# Altium integrated library TI_Logic_Flip-Flop,Latch,Register.IntLib: 2598 symbols (part 68 of 122)
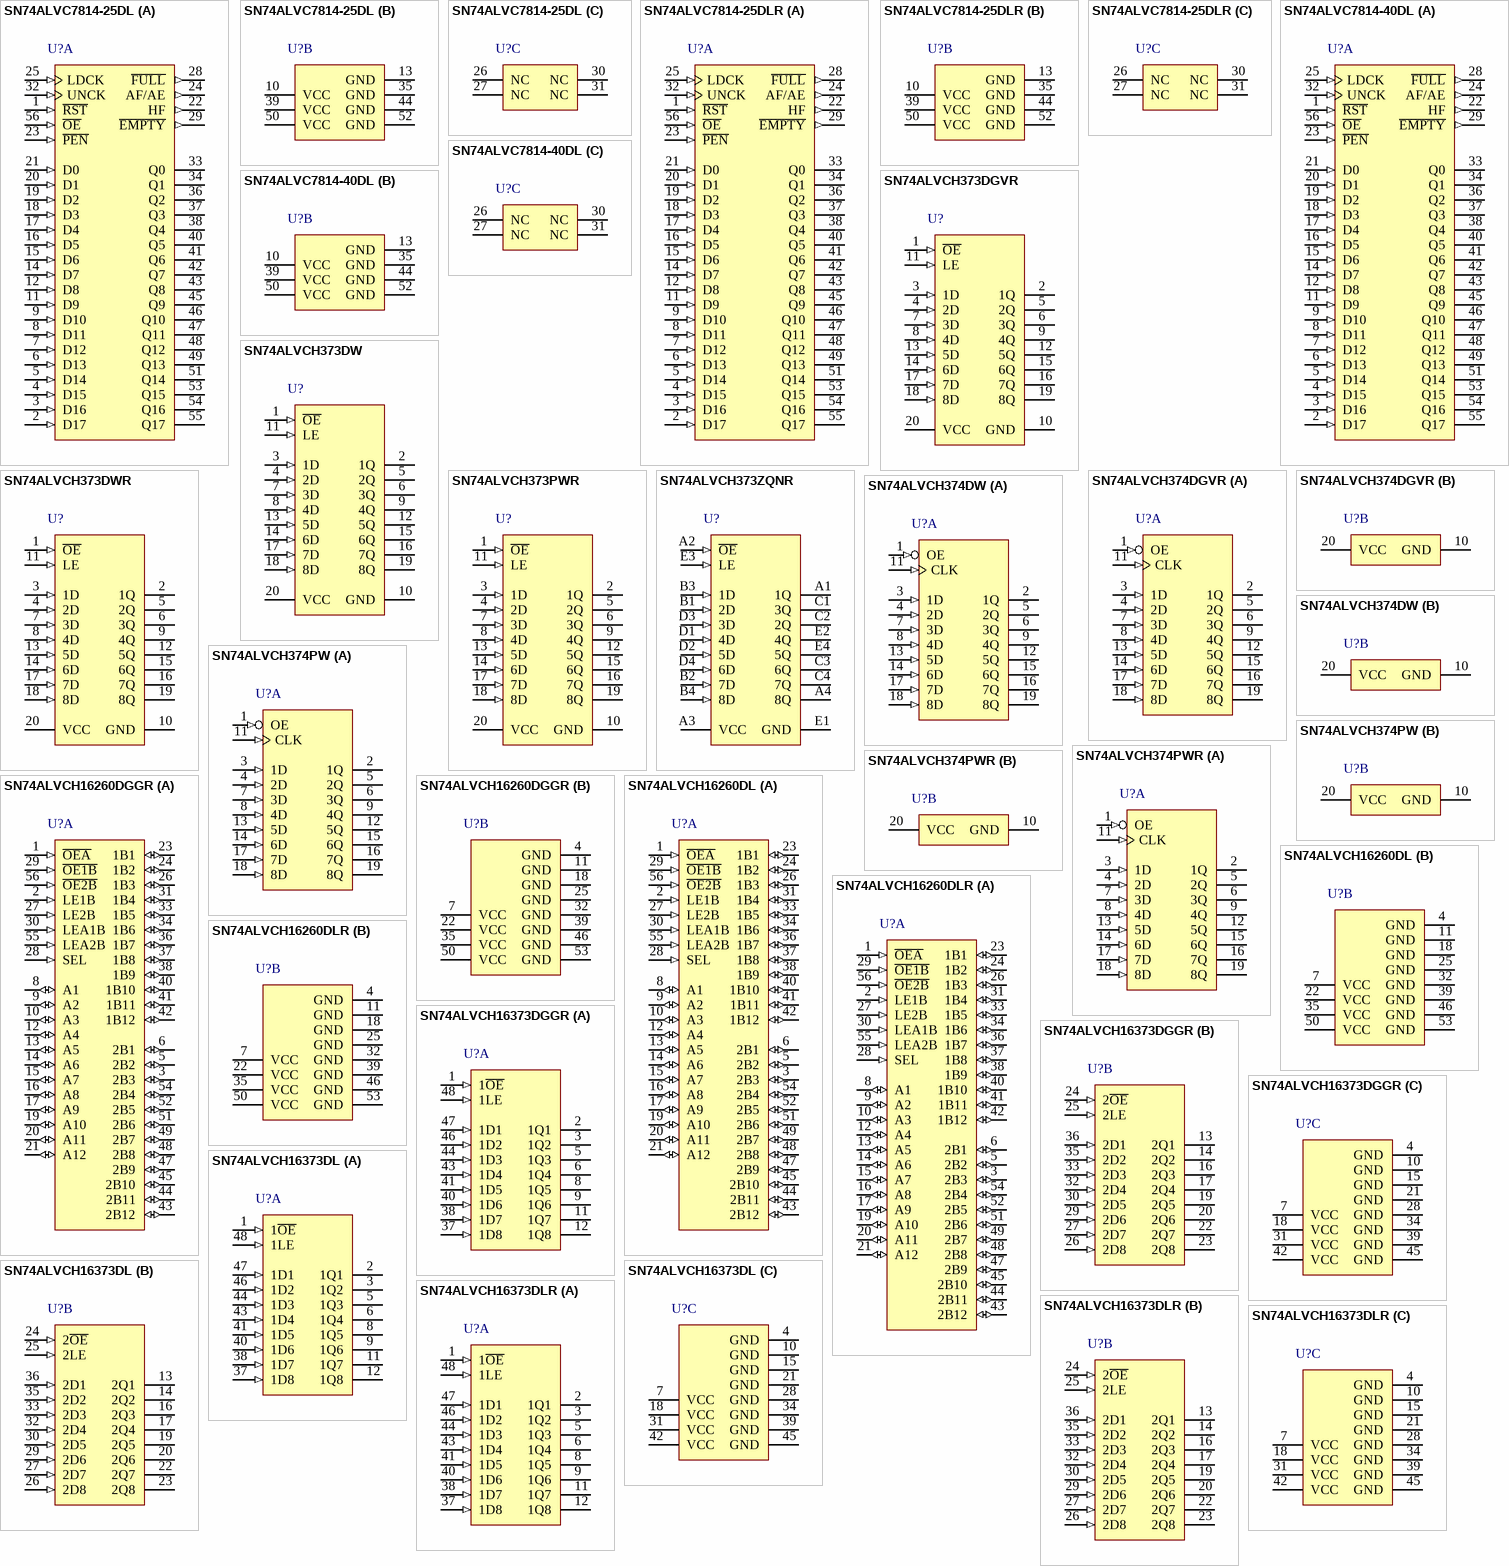
[diagram p206: symbols SN74ALVC7814-25DL to SN74ALVCH16373DLR]

## SN74ALVCH16373DL
designator U?
16-Bit Transparent D-Type Latch With 3-State Outputs, DL0048A, TUBE; Generic Part Number: SN74ALVCH16373; Manufacturer: Texas Instruments; PartNumber: SN74ALVCH16373DL; VCC(Min)(V): 1.65; VCC(Max)(V): 3.6; Output Type: LVTTL; Logic: True; Static Current: 0.04; Bits(#): 16; F @ Nom Voltage(Max)(Mhz): 150; Rating: Catalog; Technology Family: ALVC; Voltage(Nom)(V): 1.8,2.5,2.7,3.3; Schmitt Trigger: No; Output Drive (IOL/IOH)(Max)(mA): 24/-24; Output Logic: Non-inverted; 3-State Output: Yes; tpd @ Nom Voltage(Max)(ns): 4.5,4.3,3.6; DatasheetVersion: SCES020I; PackageReference: DL0048A; Supplier 1: Digi-Key; Supplier Part Number 1: 296-5225-5-ND; Supplier 2: Farnell; Supplier Part Number 2: 1740980; Supplier 3: Mouser; Supplier Part Number 3: 595-SN74ALVCH16373DL; ICC @ Nom Voltage(Max)(mA): 0.04; Input Type: LVTTL; Operating Temperature Range(C): -40 to 85; Code_JEDEC: MO-118; ComponentLink1Description: Manufacturer URL; ComponentLink1URL: http://www.ti.com/; ComponentLink2Description: Datasheet; ComponentLink2URL: http://www.ti.com/lit/ds/symlink/sn74alvch16373.pdf; ComponentLink3Description: Package Specification; ComponentLink3URL: http://www.ti.com/lit/ml/mpds490/mpds490.pdf
footprint DL0048A_N (SOP, 48-Leads, Body 7.6x16mm, Pitch 0.635mm, IPC Medium Density)
footprint DL0048A_M (SOP, 48-Leads, Body 7.6x16mm, Pitch 0.635mm, IPC Low Density)
footprint DL0048A_L (SOP, 48-Leads, Body 7.6x16mm, Pitch 0.635mm, IPC High Density)
part A pins: 1 1~{OE} (in) "Output Enable 1", 2 1Q1 (hiz) "1Q1 Output", 3 1Q2 (hiz) "1Q2 Output", 5 1Q3 (hiz) "1Q3 Output", 6 1Q4 (hiz) "1Q4 Output", 8 1Q5 (hiz) "1Q5 Output", 9 1Q6 (hiz) "1Q6 Output", 11 1Q7 (hiz) "1Q7 Output", 12 1Q8 (hiz) "1Q8 Output", 37 1D8 (in) "1D8 Input", 38 1D7 (in) "1D7 Input", 40 1D6 (in) "1D6 Input", 41 1D5 (in) "1D5 Input", 43 1D4 (in) "1D4 Input", 44 1D3 (in) "1D3 Input", 46 1D2 (in) "1D2 Input", 47 1D1 (in) "1D1 Input", 48 1LE (in) "Latch Enable 1"
part B pins: 13 2Q1 (hiz) "2Q1 Output", 14 2Q2 (hiz) "2Q2 Output", 16 2Q3 (hiz) "2Q3 Output", 17 2Q4 (hiz) "2Q4 Output", 19 2Q5 (hiz) "Output", 20 2Q6 (hiz) "2Q6 Output", 22 2Q7 (hiz) "2Q7 Output", 23 2Q8 (hiz) "2Q8 Output", 24 2~{OE} (in) "Output Enable 2", 25 2LE (in) "2LE Input", 26 2D8 (in) "2D8 Input", 27 2D7 (in) "2D7 Input", 29 2D6 (in) "2D6 Input", 30 2D5 (in) "2D5 Input", 32 2D4 (in) "2D4 Input", 33 2D3 (in) "2D3 Input", 35 2D2 (in) "2D2 Input", 36 2D1 (in) "2D1 Input"
part C pins: 4 GND (power) "Ground Pin", 7 VCC (power) "Power Pin", 10 GND (power) "Ground Pin", 15 GND (power) "Ground Pin", 18 VCC (power) "Power Pin", 21 GND (power) "Ground Pin", 28 GND (power) "Ground Pin", 31 VCC (power) "Power Pin", 34 GND (power) "Ground Pin", 39 GND (power) "Ground Pin", 42 VCC (power) "Power Pin", 45 GND (power) "Ground Pin"

## SN74ALVCH16373DLR
designator U?
16-Bit Transparent D-Type Latch With 3-State Outputs, DL0048A, LARGE T&R; Generic Part Number: SN74ALVCH16373; Manufacturer: Texas Instruments; PartNumber: SN74ALVCH16373DLR; VCC(Min)(V): 1.65; VCC(Max)(V): 3.6; Output Type: LVTTL; Logic: True; Static Current: 0.04; Bits(#): 16; F @ Nom Voltage(Max)(Mhz): 150; Rating: Catalog; Technology Family: ALVC; Voltage(Nom)(V): 1.8,2.5,2.7,3.3; Schmitt Trigger: No; Output Drive (IOL/IOH)(Max)(mA): 24/-24; Output Logic: Non-inverted; 3-State Output: Yes; tpd @ Nom Voltage(Max)(ns): 4.5,4.3,3.6; DatasheetVersion: SCES020I; PackageReference: DL0048A; Supplier 1: Digi-Key; Supplier Part Number 1: 296-14784-2-ND; Supplier 2: Digi-Key; Supplier Part Number 2: 296-14784-1-ND; Supplier 3: Digi-Key; Supplier Part Number 3: 296-14784-6-ND; Supplier 4: Mouser; Supplier Part Number 4: 595-74ALVCH16373DLR; ICC @ Nom Voltage(Max)(mA): 0.04; Input Type: LVTTL; Operating Temperature Range(C): -40 to 85; Code_JEDEC: MO-118; ComponentLink1Description: Manufacturer URL; ComponentLink1URL: http://www.ti.com/; ComponentLink2Description: Datasheet; ComponentLink2URL: http://www.ti.com/lit/ds/symlink/sn74alvch16373.pdf; ComponentLink3Description: Package Specification; ComponentLink3URL: http://www.ti.com/lit/ml/mpds490/mpds490.pdf
footprint DL0048A_N (SOP, 48-Leads, Body 7.6x16mm, Pitch 0.635mm, IPC Medium Density)
footprint DL0048A_M (SOP, 48-Leads, Body 7.6x16mm, Pitch 0.635mm, IPC Low Density)
footprint DL0048A_L (SOP, 48-Leads, Body 7.6x16mm, Pitch 0.635mm, IPC High Density)
part A pins: 1 1~{OE} (in) "Output Enable 1", 2 1Q1 (hiz) "1Q1 Output", 3 1Q2 (hiz) "1Q2 Output", 5 1Q3 (hiz) "1Q3 Output", 6 1Q4 (hiz) "1Q4 Output", 8 1Q5 (hiz) "1Q5 Output", 9 1Q6 (hiz) "1Q6 Output", 11 1Q7 (hiz) "1Q7 Output", 12 1Q8 (hiz) "1Q8 Output", 37 1D8 (in) "1D8 Input", 38 1D7 (in) "1D7 Input", 40 1D6 (in) "1D6 Input", 41 1D5 (in) "1D5 Input", 43 1D4 (in) "1D4 Input", 44 1D3 (in) "1D3 Input", 46 1D2 (in) "1D2 Input", 47 1D1 (in) "1D1 Input", 48 1LE (in) "Latch Enable 1"
part B pins: 13 2Q1 (hiz) "2Q1 Output", 14 2Q2 (hiz) "2Q2 Output", 16 2Q3 (hiz) "2Q3 Output", 17 2Q4 (hiz) "2Q4 Output", 19 2Q5 (hiz) "Output", 20 2Q6 (hiz) "2Q6 Output", 22 2Q7 (hiz) "2Q7 Output", 23 2Q8 (hiz) "2Q8 Output", 24 2~{OE} (in) "Output Enable 2", 25 2LE (in) "2LE Input", 26 2D8 (in) "2D8 Input", 27 2D7 (in) "2D7 Input", 29 2D6 (in) "2D6 Input", 30 2D5 (in) "2D5 Input", 32 2D4 (in) "2D4 Input", 33 2D3 (in) "2D3 Input", 35 2D2 (in) "2D2 Input", 36 2D1 (in) "2D1 Input"
part C pins: 4 GND (power) "Ground Pin", 7 VCC (power) "Power Pin", 10 GND (power) "Ground Pin", 15 GND (power) "Ground Pin", 18 VCC (power) "Power Pin", 21 GND (power) "Ground Pin", 28 GND (power) "Ground Pin", 31 VCC (power) "Power Pin", 34 GND (power) "Ground Pin", 39 GND (power) "Ground Pin", 42 VCC (power) "Power Pin", 45 GND (power) "Ground Pin"

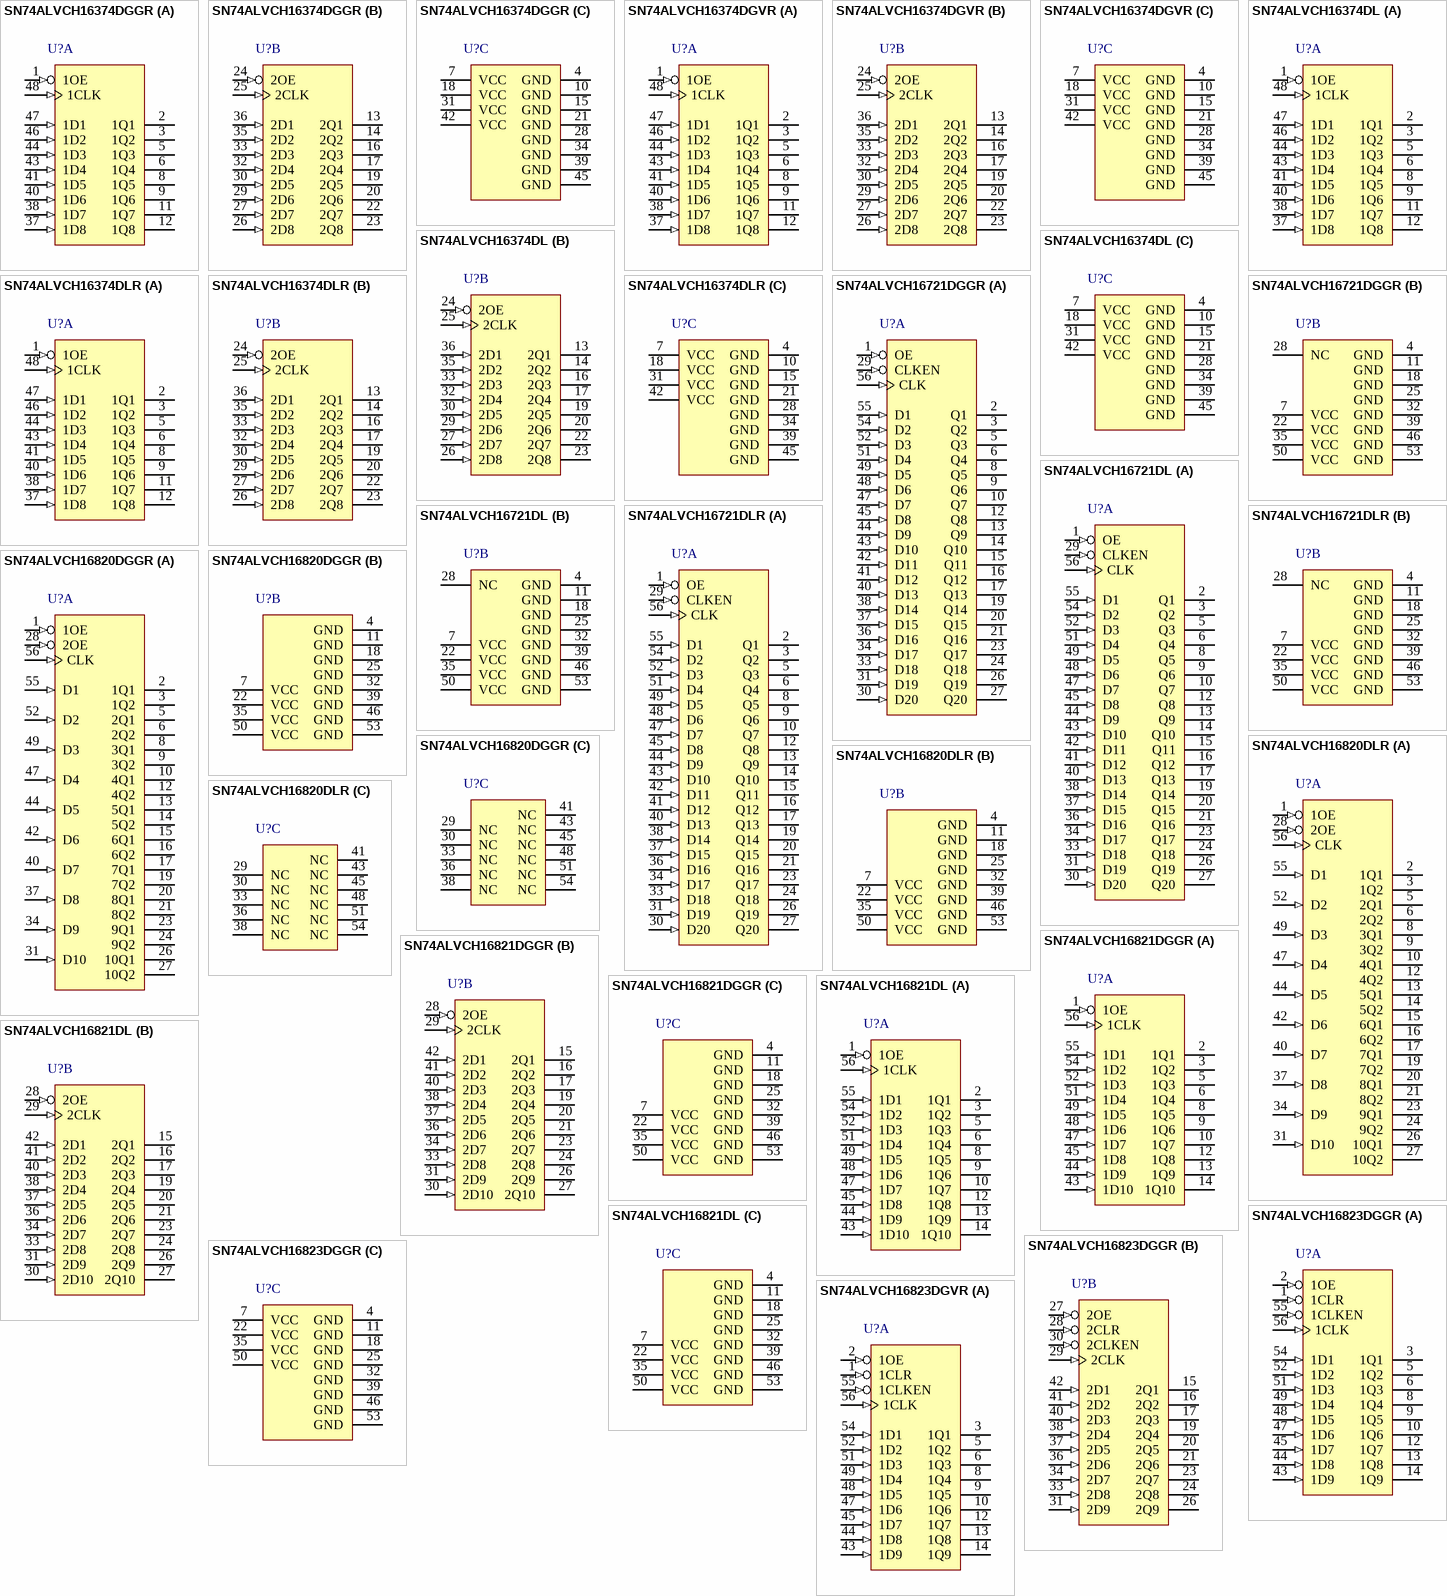
[diagram p78: symbols SN74ALVCH16374DGGR to SN74ALVCH16823DGVR]

## SN74ALVCH16374DGGR
designator U?
16-Bit Edge-Triggered D-Type Flip-Flop With 3-State Outputs, DGG0048A, LARGE T&R; Generic Part Number: SN74ALVCH16374; Manufacturer: Texas Instruments; PartNumber: SN74ALVCH16374DGGR; VCC(Min)(V): 1.65; VCC(Max)(V): 3.6; Output Type: LVTTL,CMOS; ICC @ Nom Voltage(Max)(mA): 0.04; Bits(#): 16; F @ Nom Voltage(Max)(Mhz): 150; Rating: Catalog; Technology Family: ALVC; Voltage(Nom)(V): 1.8,2.5,2.7,3.3; Schmitt Trigger: No; Output Drive (IOL/IOH)(Max)(mA): 24/-24; Output Logic: Non-inverted; 3-State Output: Yes; tpd @ Nom Voltage(Max)(ns): 5.3,4.9,4.2; DatasheetVersion: SCES021L; PackageReference: DGG0048A; Supplier 1: Digi-Key; Supplier Part Number 1: 296-1144-2-ND; Supplier 2: Digi-Key; Supplier Part Number 2: 296-1144-1-ND; Supplier 3: Digi-Key; Supplier Part Number 3: 296-1144-6-ND; Input Type: LVTTL,CMOS; Operating Temperature Range(C): -40 to 85; Code_JEDEC: MO-153; ComponentLink1Description: Manufacturer URL; ComponentLink1URL: http://www.ti.com/; ComponentLink2Description: Datasheet; ComponentLink2URL: http://www.ti.com/lit/ds/symlink/sn74alvch16374.pdf; ComponentLink3Description: Package Specification; ComponentLink3URL: http://www.ti.com/lit/ml/mtss003d/mtss003d.pdf
footprint DGG0048A_N (TSSOP, 48-Leads, Body 12.6x6.2mm, Pitch 0.5mm, IPC Medium Density)
footprint DGG0048A_M (TSSOP, 48-Leads, Body 12.6x6.2mm, Pitch 0.5mm, IPC Low Density)
footprint DGG0048A_L (TSSOP, 48-Leads, Body 12.6x6.2mm, Pitch 0.5mm, IPC High Density)
part A pins: 1 1OE (in), 2 1Q1 (hiz), 3 1Q2 (hiz), 5 1Q3 (hiz), 6 1Q4 (hiz), 8 1Q5 (hiz), 9 1Q6 (hiz), 11 1Q7 (hiz), 12 1Q8 (hiz), 37 1D8 (in), 38 1D7 (in), 40 1D6 (in), 41 1D5 (in), 43 1D4 (in), 44 1D3 (in), 46 1D2 (in), 47 1D1 (in), 48 1CLK (in)
part B pins: 13 2Q1 (hiz), 14 2Q2 (hiz), 16 2Q3 (hiz), 17 2Q4 (hiz), 19 2Q5 (hiz), 20 2Q6 (hiz), 22 2Q7 (hiz), 23 2Q8 (hiz), 24 2OE (in), 25 2CLK (in), 26 2D8 (in), 27 2D7 (in), 29 2D6 (in), 30 2D5 (in), 32 2D4 (in), 33 2D3 (in), 35 2D2 (in), 36 2D1 (in)
part C pins: 4 GND (power), 7 VCC (power), 10 GND (power), 15 GND (power), 18 VCC (power), 21 GND (power), 28 GND (power), 31 VCC (power), 34 GND (power), 39 GND (power), 42 VCC (power), 45 GND (power)

## SN74ALVCH16374DGVR
designator U?
16-Bit Edge-Triggered D-Type Flip-Flop With 3-State Outputs, DGV0048A, LARGE T&R; Generic Part Number: SN74ALVCH16374; Manufacturer: Texas Instruments; PartNumber: SN74ALVCH16374DGVR; VCC(Min)(V): 1.65; VCC(Max)(V): 3.6; Output Type: LVTTL,CMOS; ICC @ Nom Voltage(Max)(mA): 0.04; Bits(#): 16; F @ Nom Voltage(Max)(Mhz): 150; Rating: Catalog; Technology Family: ALVC; Voltage(Nom)(V): 1.8,2.5,2.7,3.3; Schmitt Trigger: No; Output Drive (IOL/IOH)(Max)(mA): 24/-24; Output Logic: Non-inverted; 3-State Output: Yes; tpd @ Nom Voltage(Max)(ns): 5.3,4.9,4.2; DatasheetVersion: SCES021L; PackageReference: DGV0048A; Supplier 1: Digi-Key; Supplier Part Number 1: 296-23238-2-ND; Supplier 2: Digi-Key; Supplier Part Number 2: 296-23238-1-ND; Supplier 3: Digi-Key; Supplier Part Number 3: 296-23238-6-ND; Input Type: LVTTL,CMOS; Operating Temperature Range(C): -40 to 85; Code_JEDEC: MO-153; ComponentLink1Description: Manufacturer URL; ComponentLink1URL: http://www.ti.com/; ComponentLink2Description: Datasheet; ComponentLink2URL: http://www.ti.com/lit/ds/symlink/sn74alvch16374.pdf; ComponentLink3Description: Package Specification; ComponentLink3URL: http://www.ti.com/lit/ml/mpds006c/mpds006c.pdf
footprint DGV0048A_N (SOP, 48-Leads, Body 4.5x9.8mm, Pitch 0.4mm, IPC Medium Density)
footprint DGV0048A_M (SOP, 48-Leads, Body 4.5x9.8mm, Pitch 0.4mm, IPC Low Density)
footprint DGV0048A_L (SOP, 48-Leads, Body 4.5x9.8mm, Pitch 0.4mm, IPC High Density)
part A pins: 1 1OE (in), 2 1Q1 (hiz), 3 1Q2 (hiz), 5 1Q3 (hiz), 6 1Q4 (hiz), 8 1Q5 (hiz), 9 1Q6 (hiz), 11 1Q7 (hiz), 12 1Q8 (hiz), 37 1D8 (in), 38 1D7 (in), 40 1D6 (in), 41 1D5 (in), 43 1D4 (in), 44 1D3 (in), 46 1D2 (in), 47 1D1 (in), 48 1CLK (in)
part B pins: 13 2Q1 (hiz), 14 2Q2 (hiz), 16 2Q3 (hiz), 17 2Q4 (hiz), 19 2Q5 (hiz), 20 2Q6 (hiz), 22 2Q7 (hiz), 23 2Q8 (hiz), 24 2OE (in), 25 2CLK (in), 26 2D8 (in), 27 2D7 (in), 29 2D6 (in), 30 2D5 (in), 32 2D4 (in), 33 2D3 (in), 35 2D2 (in), 36 2D1 (in)
part C pins: 4 GND (power), 7 VCC (power), 10 GND (power), 15 GND (power), 18 VCC (power), 21 GND (power), 28 GND (power), 31 VCC (power), 34 GND (power), 39 GND (power), 42 VCC (power), 45 GND (power)

## SN74ALVCH16374DL
designator U?
16-Bit Edge-Triggered D-Type Flip-Flop With 3-State Outputs, DL0048A, TUBE; Generic Part Number: SN74ALVCH16374; Manufacturer: Texas Instruments; PartNumber: SN74ALVCH16374DL; VCC(Min)(V): 1.65; VCC(Max)(V): 3.6; Output Type: LVTTL,CMOS; ICC @ Nom Voltage(Max)(mA): 0.04; Bits(#): 16; F @ Nom Voltage(Max)(Mhz): 150; Rating: Catalog; Technology Family: ALVC; Voltage(Nom)(V): 1.8,2.5,2.7,3.3; Schmitt Trigger: No; Output Drive (IOL/IOH)(Max)(mA): 24/-24; Output Logic: Non-inverted; 3-State Output: Yes; tpd @ Nom Voltage(Max)(ns): 5.3,4.9,4.2; DatasheetVersion: SCES021L; PackageReference: DL0048A; Supplier 1: Digi-Key; Supplier Part Number 1: 296-5226-5-ND; Supplier 2: Farnell; Supplier Part Number 2: 1752897; Input Type: LVTTL,CMOS; Operating Temperature Range(C): -40 to 85; Code_JEDEC: MO-118; ComponentLink1Description: Manufacturer URL; ComponentLink1URL: http://www.ti.com/; ComponentLink2Description: Datasheet; ComponentLink2URL: http://www.ti.com/lit/ds/symlink/sn74alvch16374.pdf; ComponentLink3Description: Package Specification; ComponentLink3URL: http://www.ti.com/lit/ml/mpds490/mpds490.pdf
footprint DL0048A_N (SOP, 48-Leads, Body 7.6x16mm, Pitch 0.635mm, IPC Medium Density)
footprint DL0048A_M (SOP, 48-Leads, Body 7.6x16mm, Pitch 0.635mm, IPC Low Density)
footprint DL0048A_L (SOP, 48-Leads, Body 7.6x16mm, Pitch 0.635mm, IPC High Density)
part A pins: 1 1OE (in), 2 1Q1 (hiz), 3 1Q2 (hiz), 5 1Q3 (hiz), 6 1Q4 (hiz), 8 1Q5 (hiz), 9 1Q6 (hiz), 11 1Q7 (hiz), 12 1Q8 (hiz), 37 1D8 (in), 38 1D7 (in), 40 1D6 (in), 41 1D5 (in), 43 1D4 (in), 44 1D3 (in), 46 1D2 (in), 47 1D1 (in), 48 1CLK (in)
part B pins: 13 2Q1 (hiz), 14 2Q2 (hiz), 16 2Q3 (hiz), 17 2Q4 (hiz), 19 2Q5 (hiz), 20 2Q6 (hiz), 22 2Q7 (hiz), 23 2Q8 (hiz), 24 2OE (in), 25 2CLK (in), 26 2D8 (in), 27 2D7 (in), 29 2D6 (in), 30 2D5 (in), 32 2D4 (in), 33 2D3 (in), 35 2D2 (in), 36 2D1 (in)
part C pins: 4 GND (power), 7 VCC (power), 10 GND (power), 15 GND (power), 18 VCC (power), 21 GND (power), 28 GND (power), 31 VCC (power), 34 GND (power), 39 GND (power), 42 VCC (power), 45 GND (power)

## SN74ALVCH16374DLR
designator U?
16-Bit Edge-Triggered D-Type Flip-Flop With 3-State Outputs, DL0048A, LARGE T&R; Generic Part Number: SN74ALVCH16374; Manufacturer: Texas Instruments; PartNumber: SN74ALVCH16374DLR; VCC(Min)(V): 1.65; VCC(Max)(V): 3.6; Output Type: LVTTL,CMOS; ICC @ Nom Voltage(Max)(mA): 0.04; Bits(#): 16; F @ Nom Voltage(Max)(Mhz): 150; Rating: Catalog; Technology Family: ALVC; Voltage(Nom)(V): 1.8,2.5,2.7,3.3; Schmitt Trigger: No; Output Drive (IOL/IOH)(Max)(mA): 24/-24; Output Logic: Non-inverted; 3-State Output: Yes; tpd @ Nom Voltage(Max)(ns): 5.3,4.9,4.2; DatasheetVersion: SCES021L; PackageReference: DL0048A; Supplier 1: Digi-Key; Supplier Part Number 1: 296-5226-2-ND; Supplier 2: Digi-Key; Supplier Part Number 2: 296-5226-1-ND; Supplier 3: Digi-Key; Supplier Part Number 3: 296-5226-6-ND; Input Type: LVTTL,CMOS; Operating Temperature Range(C): -40 to 85; Code_JEDEC: MO-118; ComponentLink1Description: Manufacturer URL; ComponentLink1URL: http://www.ti.com/; ComponentLink2Description: Datasheet; ComponentLink2URL: http://www.ti.com/lit/ds/symlink/sn74alvch16374.pdf; ComponentLink3Description: Package Specification; ComponentLink3URL: http://www.ti.com/lit/ml/mpds490/mpds490.pdf
footprint DL0048A_N (SOP, 48-Leads, Body 7.6x16mm, Pitch 0.635mm, IPC Medium Density)
footprint DL0048A_M (SOP, 48-Leads, Body 7.6x16mm, Pitch 0.635mm, IPC Low Density)
footprint DL0048A_L (SOP, 48-Leads, Body 7.6x16mm, Pitch 0.635mm, IPC High Density)
part A pins: 1 1OE (in), 2 1Q1 (hiz), 3 1Q2 (hiz), 5 1Q3 (hiz), 6 1Q4 (hiz), 8 1Q5 (hiz), 9 1Q6 (hiz), 11 1Q7 (hiz), 12 1Q8 (hiz), 37 1D8 (in), 38 1D7 (in), 40 1D6 (in), 41 1D5 (in), 43 1D4 (in), 44 1D3 (in), 46 1D2 (in), 47 1D1 (in), 48 1CLK (in)
part B pins: 13 2Q1 (hiz), 14 2Q2 (hiz), 16 2Q3 (hiz), 17 2Q4 (hiz), 19 2Q5 (hiz), 20 2Q6 (hiz), 22 2Q7 (hiz), 23 2Q8 (hiz), 24 2OE (in), 25 2CLK (in), 26 2D8 (in), 27 2D7 (in), 29 2D6 (in), 30 2D5 (in), 32 2D4 (in), 33 2D3 (in), 35 2D2 (in), 36 2D1 (in)
part C pins: 4 GND (power), 7 VCC (power), 10 GND (power), 15 GND (power), 18 VCC (power), 21 GND (power), 28 GND (power), 31 VCC (power), 34 GND (power), 39 GND (power), 42 VCC (power), 45 GND (power)

## SN74ALVCH16721DGGR
designator U?
3.3-V 20-Bit Flip-Flop With 3-State Outputs, DGG0056A, LARGE T&R; Generic Part Number: SN74ALVCH16721; Manufacturer: Texas Instruments; PartNumber: SN74ALVCH16721DGGR; VCC(Min)(V): 1.65; VCC(Max)(V): 3.6; Output Type: LVTTL,CMOS; ICC @ Nom Voltage(Max)(mA): 0.04; Bits(#): 20; F @ Nom Voltage(Max)(Mhz): 150; Rating: Catalog; Technology Family: ALVC; Voltage(Nom)(V): 1.8,2.5,2.7,3.3; Schmitt Trigger: No; Output Drive (IOL/IOH)(Max)(mA): 24/-24; Output Logic: Non-inverted; 3-State Output: Yes; tpd @ Nom Voltage(Max)(ns): 5.6,5.1,4.3; DatasheetVersion: SCES052E; PackageReference: DGG0056A; Supplier 1: Digi-Key; Supplier Part Number 1: 296-1147-2-ND; Supplier 2: Digi-Key; Supplier Part Number 2: 296-1147-1-ND; Supplier 3: Digi-Key; Supplier Part Number 3: 296-1147-6-ND; Input Type: LVTTL,CMOS; Operating Temperature Range(C): -40 to 85; Code_JEDEC: MO-153; ComponentLink1Description: Manufacturer URL; ComponentLink1URL: http://www.ti.com/; ComponentLink2Description: Datasheet; ComponentLink2URL: http://www.ti.com/lit/ds/symlink/sn74alvch16721.pdf; ComponentLink3Description: Package Specification; ComponentLink3URL: http://www.ti.com/lit/ml/mtss003d/mtss003d.pdf
footprint DGG0056A_N (TSSOP, 56-Leads, Body 14.1x6.2mm, Pitch 0.5mm, IPC Medium Density)
footprint DGG0056A_M (TSSOP, 56-Leads, Body 14.1x6.2mm, Pitch 0.5mm, IPC Low Density)
footprint DGG0056A_L (TSSOP, 56-Leads, Body 14.1x6.2mm, Pitch 0.5mm, IPC High Density)
part A pins: 1 OE (in), 2 Q1 (hiz), 3 Q2 (hiz), 5 Q3 (hiz), 6 Q4 (hiz), 8 Q5 (hiz), 9 Q6 (hiz), 10 Q7 (hiz), 12 Q8 (hiz), 13 Q9 (hiz), 14 Q10 (hiz), 15 Q11 (hiz), 16 Q12 (hiz), 17 Q13 (hiz), 19 Q14 (hiz), 20 Q15 (hiz), 21 Q16 (hiz), 23 Q17 (hiz), 24 Q18 (hiz), 26 Q19 (hiz), 27 Q20 (hiz), 29 CLKEN (in), 30 D20 (in), 31 D19 (in), 33 D18 (in), 34 D17 (in), 36 D16 (in), 37 D15 (in), 38 D14 (in), 40 D13 (in), 41 D12 (in), 42 D11 (in), 43 D10 (in), 44 D9 (in), 45 D8 (in), 47 D7 (in), 48 D6 (in), 49 D5 (in), 51 D4 (in), 52 D3 (in), 54 D2 (in), 55 D1 (in), 56 CLK (in)
part B pins: 4 GND (power), 7 VCC (power), 11 GND (power), 18 GND (power), 22 VCC (power), 25 GND (power), 28 NC, 32 GND (power), 35 VCC (power), 39 GND (power), 46 GND (power), 50 VCC (power), 53 GND (power)

## SN74ALVCH16721DL
designator U?
3.3-V 20-Bit Flip-Flop With 3-State Outputs, DL0056A, TUBE; Generic Part Number: SN74ALVCH16721; Manufacturer: Texas Instruments; PartNumber: SN74ALVCH16721DL; VCC(Min)(V): 1.65; VCC(Max)(V): 3.6; Output Type: LVTTL,CMOS; ICC @ Nom Voltage(Max)(mA): 0.04; Bits(#): 20; F @ Nom Voltage(Max)(Mhz): 150; Rating: Catalog; Technology Family: ALVC; Voltage(Nom)(V): 1.8,2.5,2.7,3.3; Schmitt Trigger: No; Output Drive (IOL/IOH)(Max)(mA): 24/-24; Output Logic: Non-inverted; 3-State Output: Yes; tpd @ Nom Voltage(Max)(ns): 5.6,5.1,4.3; DatasheetVersion: SCES052E; PackageReference: DL0056A; Supplier 1: Digi-Key; Supplier Part Number 1: SN74ALVCH16721DL-ND; Supplier 2: Farnell; Supplier Part Number 2: 1753003; Input Type: LVTTL,CMOS; Operating Temperature Range(C): -40 to 85; Code_JEDEC: MO-118; ComponentLink1Description: Manufacturer URL; ComponentLink1URL: http://www.ti.com/; ComponentLink2Description: Datasheet; ComponentLink2URL: http://www.ti.com/lit/ds/symlink/sn74alvch16721.pdf; ComponentLink3Description: Package Specification; ComponentLink3URL: http://www.ti.com/lit/ml/mpds491/mpds491.pdf
footprint DL0056A_N (SOP, 56-Leads, Body 7.6x18.5mm, Pitch 0.635mm, IPC Medium Density)
footprint DL0056A_M (SOP, 56-Leads, Body 7.6x18.5mm, Pitch 0.635mm, IPC Low Density)
footprint DL0056A_L (SOP, 56-Leads, Body 7.6x18.5mm, Pitch 0.635mm, IPC High Density)
part A pins: 1 OE (in), 2 Q1 (hiz), 3 Q2 (hiz), 5 Q3 (hiz), 6 Q4 (hiz), 8 Q5 (hiz), 9 Q6 (hiz), 10 Q7 (hiz), 12 Q8 (hiz), 13 Q9 (hiz), 14 Q10 (hiz), 15 Q11 (hiz), 16 Q12 (hiz), 17 Q13 (hiz), 19 Q14 (hiz), 20 Q15 (hiz), 21 Q16 (hiz), 23 Q17 (hiz), 24 Q18 (hiz), 26 Q19 (hiz), 27 Q20 (hiz), 29 CLKEN (in), 30 D20 (in), 31 D19 (in), 33 D18 (in), 34 D17 (in), 36 D16 (in), 37 D15 (in), 38 D14 (in), 40 D13 (in), 41 D12 (in), 42 D11 (in), 43 D10 (in), 44 D9 (in), 45 D8 (in), 47 D7 (in), 48 D6 (in), 49 D5 (in), 51 D4 (in), 52 D3 (in), 54 D2 (in), 55 D1 (in), 56 CLK (in)
part B pins: 4 GND (power), 7 VCC (power), 11 GND (power), 18 GND (power), 22 VCC (power), 25 GND (power), 28 NC, 32 GND (power), 35 VCC (power), 39 GND (power), 46 GND (power), 50 VCC (power), 53 GND (power)

## SN74ALVCH16721DLR
designator U?
3.3-V 20-Bit Flip-Flop With 3-State Outputs, DL0056A, LARGE T&R; Generic Part Number: SN74ALVCH16721; Manufacturer: Texas Instruments; PartNumber: SN74ALVCH16721DLR; VCC(Min)(V): 1.65; VCC(Max)(V): 3.6; Output Type: LVTTL,CMOS; ICC @ Nom Voltage(Max)(mA): 0.04; Bits(#): 20; F @ Nom Voltage(Max)(Mhz): 150; Rating: Catalog; Technology Family: ALVC; Voltage(Nom)(V): 1.8,2.5,2.7,3.3; Schmitt Trigger: No; Output Drive (IOL/IOH)(Max)(mA): 24/-24; Output Logic: Non-inverted; 3-State Output: Yes; tpd @ Nom Voltage(Max)(ns): 5.6,5.1,4.3; DatasheetVersion: SCES052E; PackageReference: DL0056A; Supplier 1: Digi-Key; Supplier Part Number 1: 296-5246-2-ND; Supplier 2: Digi-Key; Supplier Part Number 2: 296-5246-1-ND; Supplier 3: Digi-Key; Supplier Part Number 3: 296-5246-6-ND; Supplier 4: Mouser; Supplier Part Number 4: 595-74ALVCH16721DLR; Input Type: LVTTL,CMOS; Operating Temperature Range(C): -40 to 85; Code_JEDEC: MO-118; ComponentLink1Description: Manufacturer URL; ComponentLink1URL: http://www.ti.com/; ComponentLink2Description: Datasheet; ComponentLink2URL: http://www.ti.com/lit/ds/symlink/sn74alvch16721.pdf; ComponentLink3Description: Package Specification; ComponentLink3URL: http://www.ti.com/lit/ml/mpds491/mpds491.pdf
footprint DL0056A_N (SOP, 56-Leads, Body 7.6x18.5mm, Pitch 0.635mm, IPC Medium Density)
footprint DL0056A_M (SOP, 56-Leads, Body 7.6x18.5mm, Pitch 0.635mm, IPC Low Density)
footprint DL0056A_L (SOP, 56-Leads, Body 7.6x18.5mm, Pitch 0.635mm, IPC High Density)
part A pins: 1 OE (in), 2 Q1 (hiz), 3 Q2 (hiz), 5 Q3 (hiz), 6 Q4 (hiz), 8 Q5 (hiz), 9 Q6 (hiz), 10 Q7 (hiz), 12 Q8 (hiz), 13 Q9 (hiz), 14 Q10 (hiz), 15 Q11 (hiz), 16 Q12 (hiz), 17 Q13 (hiz), 19 Q14 (hiz), 20 Q15 (hiz), 21 Q16 (hiz), 23 Q17 (hiz), 24 Q18 (hiz), 26 Q19 (hiz), 27 Q20 (hiz), 29 CLKEN (in), 30 D20 (in), 31 D19 (in), 33 D18 (in), 34 D17 (in), 36 D16 (in), 37 D15 (in), 38 D14 (in), 40 D13 (in), 41 D12 (in), 42 D11 (in), 43 D10 (in), 44 D9 (in), 45 D8 (in), 47 D7 (in), 48 D6 (in), 49 D5 (in), 51 D4 (in), 52 D3 (in), 54 D2 (in), 55 D1 (in), 56 CLK (in)
part B pins: 4 GND (power), 7 VCC (power), 11 GND (power), 18 GND (power), 22 VCC (power), 25 GND (power), 28 NC, 32 GND (power), 35 VCC (power), 39 GND (power), 46 GND (power), 50 VCC (power), 53 GND (power)

## SN74ALVCH16820DGGR
designator U?
3.3-V 10-Bit Flip-Flop with Dual Outputs and 3-State Outputs, DGG0056A, LARGE T&R; Generic Part Number: SN74ALVCH16820; Manufacturer: Texas Instruments; PartNumber: SN74ALVCH16820DGGR; VCC(Min)(V): 1.65; VCC(Max)(V): 3.6; Output Type: LVTTL,CMOS; ICC @ Nom Voltage(Max)(mA): 0.04; Bits(#): 10; F @ Nom Voltage(Max)(Mhz): 150; Rating: Catalog; Technology Family: ALVC; Voltage(Nom)(V): 1.8,2.5,2.7,3.3; Schmitt Trigger: No; Output Drive (IOL/IOH)(Max)(mA): 24/-24; Output Logic: Non-inverted; 3-State Output: Yes; tpd @ Nom Voltage(Max)(ns): 5.9,5.5,4.8; DatasheetVersion: SCES035G; PackageReference: DGG0056A; Supplier 1: Digi-Key; Supplier Part Number 1: 296-5247-2-ND; Supplier 2: Digi-Key; Supplier Part Number 2: 296-5247-1-ND; Supplier 3: Digi-Key; Supplier Part Number 3: 296-5247-6-ND; Supplier 4: Mouser; Supplier Part Number 4: 595-74ALVCH16820DGGR; Input Type: LVTTL,CMOS; Operating Temperature Range(C): -40 to 85; Code_JEDEC: MO-153; ComponentLink1Description: Manufacturer URL; ComponentLink1URL: http://www.ti.com/; ComponentLink2Description: Datasheet; ComponentLink2URL: http://www.ti.com/lit/ds/symlink/sn74alvch16820.pdf; ComponentLink3Description: Package Specification; ComponentLink3URL: http://www.ti.com/lit/ml/mtss003d/mtss003d.pdf
footprint DGG0056A_N (TSSOP, 56-Leads, Body 14.1x6.2mm, Pitch 0.5mm, IPC Medium Density)
footprint DGG0056A_M (TSSOP, 56-Leads, Body 14.1x6.2mm, Pitch 0.5mm, IPC Low Density)
footprint DGG0056A_L (TSSOP, 56-Leads, Body 14.1x6.2mm, Pitch 0.5mm, IPC High Density)
part A pins: 1 1OE (in), 2 1Q1 (hiz), 3 1Q2 (hiz), 5 2Q1 (hiz), 6 2Q2 (hiz), 8 3Q1 (hiz), 9 3Q2 (hiz), 10 4Q1 (hiz), 12 4Q2 (hiz), 13 5Q1 (hiz), 14 5Q2 (hiz), 15 6Q1 (hiz), 16 6Q2 (hiz), 17 7Q1 (hiz), 19 7Q2 (hiz), 20 8Q1 (hiz), 21 8Q2 (hiz), 23 9Q1 (hiz), 24 9Q2 (hiz), 26 10Q1 (hiz), 27 10Q2 (hiz), 28 2OE (in), 31 D10 (in), 34 D9 (in), 37 D8 (in), 40 D7 (in), 42 D6 (in), 44 D5 (in), 47 D4 (in), 49 D3 (in), 52 D2 (in), 55 D1 (in), 56 CLK (in)
part B pins: 4 GND (power), 7 VCC (power), 11 GND (power), 18 GND (power), 22 VCC (power), 25 GND (power), 32 GND (power), 35 VCC (power), 39 GND (power), 46 GND (power), 50 VCC (power), 53 GND (power)
part C pins: 29 NC, 30 NC, 33 NC, 36 NC, 38 NC, 41 NC, 43 NC, 45 NC, 48 NC, 51 NC, 54 NC

## SN74ALVCH16820DLR
designator U?
3.3-V 10-Bit Flip-Flop with Dual Outputs and 3-State Outputs, DL0056A, LARGE T&R; Generic Part Number: SN74ALVCH16820; Manufacturer: Texas Instruments; PartNumber: SN74ALVCH16820DLR; VCC(Min)(V): 1.65; VCC(Max)(V): 3.6; Output Type: LVTTL,CMOS; ICC @ Nom Voltage(Max)(mA): 0.04; Bits(#): 10; F @ Nom Voltage(Max)(Mhz): 150; Rating: Catalog; Technology Family: ALVC; Voltage(Nom)(V): 1.8,2.5,2.7,3.3; Schmitt Trigger: No; Output Drive (IOL/IOH)(Max)(mA): 24/-24; Output Logic: Non-inverted; 3-State Output: Yes; tpd @ Nom Voltage(Max)(ns): 5.9,5.5,4.8; DatasheetVersion: SCES035G; PackageReference: DL0056A; Supplier 1: Digi-Key; Supplier Part Number 1: 296-5248-2-ND; Supplier 2: Digi-Key; Supplier Part Number 2: 296-5248-1-ND; Supplier 3: Digi-Key; Supplier Part Number 3: 296-5248-6-ND; Input Type: LVTTL,CMOS; Operating Temperature Range(C): -40 to 85; Code_JEDEC: MO-118; ComponentLink1Description: Manufacturer URL; ComponentLink1URL: http://www.ti.com/; ComponentLink2Description: Datasheet; ComponentLink2URL: http://www.ti.com/lit/ds/symlink/sn74alvch16820.pdf; ComponentLink3Description: Package Specification; ComponentLink3URL: http://www.ti.com/lit/ml/mpds491/mpds491.pdf
footprint DL0056A_N (SOP, 56-Leads, Body 7.6x18.5mm, Pitch 0.635mm, IPC Medium Density)
footprint DL0056A_M (SOP, 56-Leads, Body 7.6x18.5mm, Pitch 0.635mm, IPC Low Density)
footprint DL0056A_L (SOP, 56-Leads, Body 7.6x18.5mm, Pitch 0.635mm, IPC High Density)
part A pins: 1 1OE (in), 2 1Q1 (hiz), 3 1Q2 (hiz), 5 2Q1 (hiz), 6 2Q2 (hiz), 8 3Q1 (hiz), 9 3Q2 (hiz), 10 4Q1 (hiz), 12 4Q2 (hiz), 13 5Q1 (hiz), 14 5Q2 (hiz), 15 6Q1 (hiz), 16 6Q2 (hiz), 17 7Q1 (hiz), 19 7Q2 (hiz), 20 8Q1 (hiz), 21 8Q2 (hiz), 23 9Q1 (hiz), 24 9Q2 (hiz), 26 10Q1 (hiz), 27 10Q2 (hiz), 28 2OE (in), 31 D10 (in), 34 D9 (in), 37 D8 (in), 40 D7 (in), 42 D6 (in), 44 D5 (in), 47 D4 (in), 49 D3 (in), 52 D2 (in), 55 D1 (in), 56 CLK (in)
part B pins: 4 GND (power), 7 VCC (power), 11 GND (power), 18 GND (power), 22 VCC (power), 25 GND (power), 32 GND (power), 35 VCC (power), 39 GND (power), 46 GND (power), 50 VCC (power), 53 GND (power)
part C pins: 29 NC, 30 NC, 33 NC, 36 NC, 38 NC, 41 NC, 43 NC, 45 NC, 48 NC, 51 NC, 54 NC

## SN74ALVCH16821DGGR
designator U?
3.3-V 20-Bit Bus-Interface Flip-Flop with 3-State Outputs, DGG0056A, LARGE T&R; Generic Part Number: SN74ALVCH16821; Manufacturer: Texas Instruments; PartNumber: SN74ALVCH16821DGGR; VCC(Min)(V): 1.65; VCC(Max)(V): 3.6; Output Type: LVTTL,CMOS; ICC @ Nom Voltage(Max)(mA): 0.04; Bits(#): 20; F @ Nom Voltage(Max)(Mhz): 150; Rating: Catalog; Technology Family: ALVC; Voltage(Nom)(V): 1.8,2.5,2.7,3.3; Schmitt Trigger: No; Output Drive (IOL/IOH)(Max)(mA): 24/-24; Output Logic: Non-inverted; 3-State Output: Yes; tpd @ Nom Voltage(Max)(ns): 5.8,5.3,4.5; DatasheetVersion: SCES037F; PackageReference: DGG0056A; Supplier 1: Digi-Key; Supplier Part Number 1: 296-5249-2-ND; Supplier 2: Digi-Key; Supplier Part Number 2: 296-5249-1-ND; Supplier 3: Digi-Key; Supplier Part Number 3: 296-5249-6-ND; Supplier 4: Newark; Supplier Part Number 4: 76C2371; Input Type: LVTTL,CMOS; Operating Temperature Range(C): -40 to 85; Code_JEDEC: MO-153; ComponentLink1Description: Manufacturer URL; ComponentLink1URL: http://www.ti.com/; ComponentLink2Description: Datasheet; ComponentLink2URL: http://www.ti.com/lit/ds/symlink/sn74alvch16821.pdf; ComponentLink3Description: Package Specification; ComponentLink3URL: http://www.ti.com/lit/ml/mtss003d/mtss003d.pdf
footprint DGG0056A_N (TSSOP, 56-Leads, Body 14.1x6.2mm, Pitch 0.5mm, IPC Medium Density)
footprint DGG0056A_M (TSSOP, 56-Leads, Body 14.1x6.2mm, Pitch 0.5mm, IPC Low Density)
footprint DGG0056A_L (TSSOP, 56-Leads, Body 14.1x6.2mm, Pitch 0.5mm, IPC High Density)
part A pins: 1 1OE (in), 2 1Q1 (hiz), 3 1Q2 (hiz), 5 1Q3 (hiz), 6 1Q4 (hiz), 8 1Q5 (hiz), 9 1Q6 (hiz), 10 1Q7 (hiz), 12 1Q8 (hiz), 13 1Q9 (hiz), 14 1Q10 (hiz), 43 1D10 (in), 44 1D9 (in), 45 1D8 (in), 47 1D7 (in), 48 1D6 (in), 49 1D5 (in), 51 1D4 (in), 52 1D3 (in), 54 1D2 (in), 55 1D1 (in), 56 1CLK (in)
part B pins: 15 2Q1 (hiz), 16 2Q2 (hiz), 17 2Q3 (hiz), 19 2Q4 (hiz), 20 2Q5 (hiz), 21 2Q6 (hiz), 23 2Q7 (hiz), 24 2Q8 (hiz), 26 2Q9 (hiz), 27 2Q10 (hiz), 28 2OE (in), 29 2CLK (in), 30 2D10 (in), 31 2D9 (in), 33 2D8 (in), 34 2D7 (in), 36 2D6 (in), 37 2D5 (in), 38 2D4 (in), 40 2D3 (in), 41 2D2 (in), 42 2D1 (in)
part C pins: 4 GND (power), 7 VCC (power), 11 GND (power), 18 GND (power), 22 VCC (power), 25 GND (power), 32 GND (power), 35 VCC (power), 39 GND (power), 46 GND (power), 50 VCC (power), 53 GND (power)

## SN74ALVCH16821DL
designator U?
3.3-V 20-Bit Bus-Interface Flip-Flop with 3-State Outputs, DL0056A, TUBE; Generic Part Number: SN74ALVCH16821; Manufacturer: Texas Instruments; PartNumber: SN74ALVCH16821DL; VCC(Min)(V): 1.65; VCC(Max)(V): 3.6; Output Type: LVTTL,CMOS; ICC @ Nom Voltage(Max)(mA): 0.04; Bits(#): 20; F @ Nom Voltage(Max)(Mhz): 150; Rating: Catalog; Technology Family: ALVC; Voltage(Nom)(V): 1.8,2.5,2.7,3.3; Schmitt Trigger: No; Output Drive (IOL/IOH)(Max)(mA): 24/-24; Output Logic: Non-inverted; 3-State Output: Yes; tpd @ Nom Voltage(Max)(ns): 5.8,5.3,4.5; DatasheetVersion: SCES037F; PackageReference: DL0056A; Supplier 1: Digi-Key; Supplier Part Number 1: 296-5250-5-ND; Supplier 2: Newark; Supplier Part Number 2: 76C2372; Input Type: LVTTL,CMOS; Operating Temperature Range(C): -40 to 85; Code_JEDEC: MO-118; ComponentLink1Description: Manufacturer URL; ComponentLink1URL: http://www.ti.com/; ComponentLink2Description: Datasheet; ComponentLink2URL: http://www.ti.com/lit/ds/symlink/sn74alvch16821.pdf; ComponentLink3Description: Package Specification; ComponentLink3URL: http://www.ti.com/lit/ml/mpds491/mpds491.pdf
footprint DL0056A_N (SOP, 56-Leads, Body 7.6x18.5mm, Pitch 0.635mm, IPC Medium Density)
footprint DL0056A_M (SOP, 56-Leads, Body 7.6x18.5mm, Pitch 0.635mm, IPC Low Density)
footprint DL0056A_L (SOP, 56-Leads, Body 7.6x18.5mm, Pitch 0.635mm, IPC High Density)
part A pins: 1 1OE (in), 2 1Q1 (hiz), 3 1Q2 (hiz), 5 1Q3 (hiz), 6 1Q4 (hiz), 8 1Q5 (hiz), 9 1Q6 (hiz), 10 1Q7 (hiz), 12 1Q8 (hiz), 13 1Q9 (hiz), 14 1Q10 (hiz), 43 1D10 (in), 44 1D9 (in), 45 1D8 (in), 47 1D7 (in), 48 1D6 (in), 49 1D5 (in), 51 1D4 (in), 52 1D3 (in), 54 1D2 (in), 55 1D1 (in), 56 1CLK (in)
part B pins: 15 2Q1 (hiz), 16 2Q2 (hiz), 17 2Q3 (hiz), 19 2Q4 (hiz), 20 2Q5 (hiz), 21 2Q6 (hiz), 23 2Q7 (hiz), 24 2Q8 (hiz), 26 2Q9 (hiz), 27 2Q10 (hiz), 28 2OE (in), 29 2CLK (in), 30 2D10 (in), 31 2D9 (in), 33 2D8 (in), 34 2D7 (in), 36 2D6 (in), 37 2D5 (in), 38 2D4 (in), 40 2D3 (in), 41 2D2 (in), 42 2D1 (in)
part C pins: 4 GND (power), 7 VCC (power), 11 GND (power), 18 GND (power), 22 VCC (power), 25 GND (power), 32 GND (power), 35 VCC (power), 39 GND (power), 46 GND (power), 50 VCC (power), 53 GND (power)

## SN74ALVCH16823DGGR
designator U?
18-Bit Bus-Interface Flip-Flop With 3-State Outputs, DGG0056A, LARGE T&R; Generic Part Number: SN74ALVCH16823; Manufacturer: Texas Instruments; PartNumber: SN74ALVCH16823DGGR; VCC(Min)(V): 1.65; VCC(Max)(V): 3.6; Output Type: LVTTL,CMOS; ICC @ Nom Voltage(Max)(mA): 0.04; Bits(#): 18; F @ Nom Voltage(Max)(Mhz): 150; Rating: Catalog; Technology Family: ALVC; Voltage(Nom)(V): 1.8,2.5,2.7,3.3; Schmitt Trigger: No; Output Drive (IOL/IOH)(Max)(mA): 24/-24; Output Logic: Non-inverted; 3-State Output: Yes; tpd @ Nom Voltage(Max)(ns): 5.8,5.2,4.6; DatasheetVersion: SCES038F; PackageReference: DGG0056A; Supplier 1: Digi-Key; Supplier Part Number 1: 296-1148-2-ND; Supplier 2: Digi-Key; Supplier Part Number 2: 296-1148-1-ND; Supplier 3: Digi-Key; Supplier Part Number 3: 296-1148-6-ND; Input Type: LVTTL,CMOS; Operating Temperature Range(C): -40 to 85; Code_JEDEC: MO-153; ComponentLink1Description: Manufacturer URL; ComponentLink1URL: http://www.ti.com/; ComponentLink2Description: Datasheet; ComponentLink2URL: http://www.ti.com/lit/ds/symlink/sn74alvch16823.pdf; ComponentLink3Description: Package Specification; ComponentLink3URL: http://www.ti.com/lit/ml/mtss003d/mtss003d.pdf
footprint DGG0056A_N (TSSOP, 56-Leads, Body 14.1x6.2mm, Pitch 0.5mm, IPC Medium Density)
footprint DGG0056A_M (TSSOP, 56-Leads, Body 14.1x6.2mm, Pitch 0.5mm, IPC Low Density)
footprint DGG0056A_L (TSSOP, 56-Leads, Body 14.1x6.2mm, Pitch 0.5mm, IPC High Density)
part A pins: 1 1CLR (in) "Asynchronous Clear Inputs (Active LOW)", 2 1OE (in) "Output Enable Inputs (Active LOW)", 3 1Q1 (hiz) "Three-State Outputs", 5 1Q2 (hiz) "Three-State Outputs", 6 1Q3 (hiz) "Three-State Outputs", 8 1Q4 (hiz) "Three-State Outputs", 9 1Q5 (hiz) "Three-State Outputs", 10 1Q6 (hiz) "Three-State Outputs", 12 1Q7 (hiz) "Three-State Outputs", 13 1Q8 (hiz) "Three-State Outputs", 14 1Q9 (hiz) "Three-State Outputs", 43 1D9 (in) "Data Inputs", 44 1D8 (in) "Data Inputs", 45 1D7 (in) "Data Inputs", 47 1D6 (in) "Data Inputs", 48 1D5 (in) "Data Inputs", 49 1D4 (in) "Data Inputs", 51 1D3 (in) "Data Inputs", 52 1D2 (in) "Data Inputs", 54 1D1 (in) "Data Inputs", 55 1CLKEN (in) "Clock Enable Inputs (Active LOW)", 56 1CLK (in) "Clock Inputs"
part B pins: 15 2Q1 (hiz) "Three-State Outputs", 16 2Q2 (hiz) "Three-State Outputs", 17 2Q3 (hiz) "Three-State Outputs", 19 2Q4 (hiz) "Three-State Outputs", 20 2Q5 (hiz) "Three-State Outputs", 21 2Q6 (hiz) "Three-State Outputs", 23 2Q7 (hiz) "Three-State Outputs", 24 2Q8 (hiz) "Three-State Outputs", 26 2Q9 (hiz) "Three-State Outputs", 27 2OE (in) "Output Enable Inputs (Active LOW)", 28 2CLR (in) "Asynchronous Clear Inputs (Active LOW)", 29 2CLK (in) "Clock Inputs", 30 2CLKEN (in) "Clock Enable Inputs (Active LOW)", 31 2D9 (in) "Data Inputs", 33 2D8 (in) "Data Inputs", 34 2D7 (in) "Data Inputs", 36 2D6 (in) "Data Inputs", 37 2D5 (in) "Data Inputs", 38 2D4 (in) "Data Inputs", 40 2D3 (in) "Data Inputs", 41 2D2 (in) "Data Inputs", 42 2D1 (in) "Data Inputs"
part C pins: 4 GND (power), 7 VCC (power), 11 GND (power), 18 GND (power), 22 VCC (power), 25 GND (power), 32 GND (power), 35 VCC (power), 39 GND (power), 46 GND (power), 50 VCC (power), 53 GND (power)

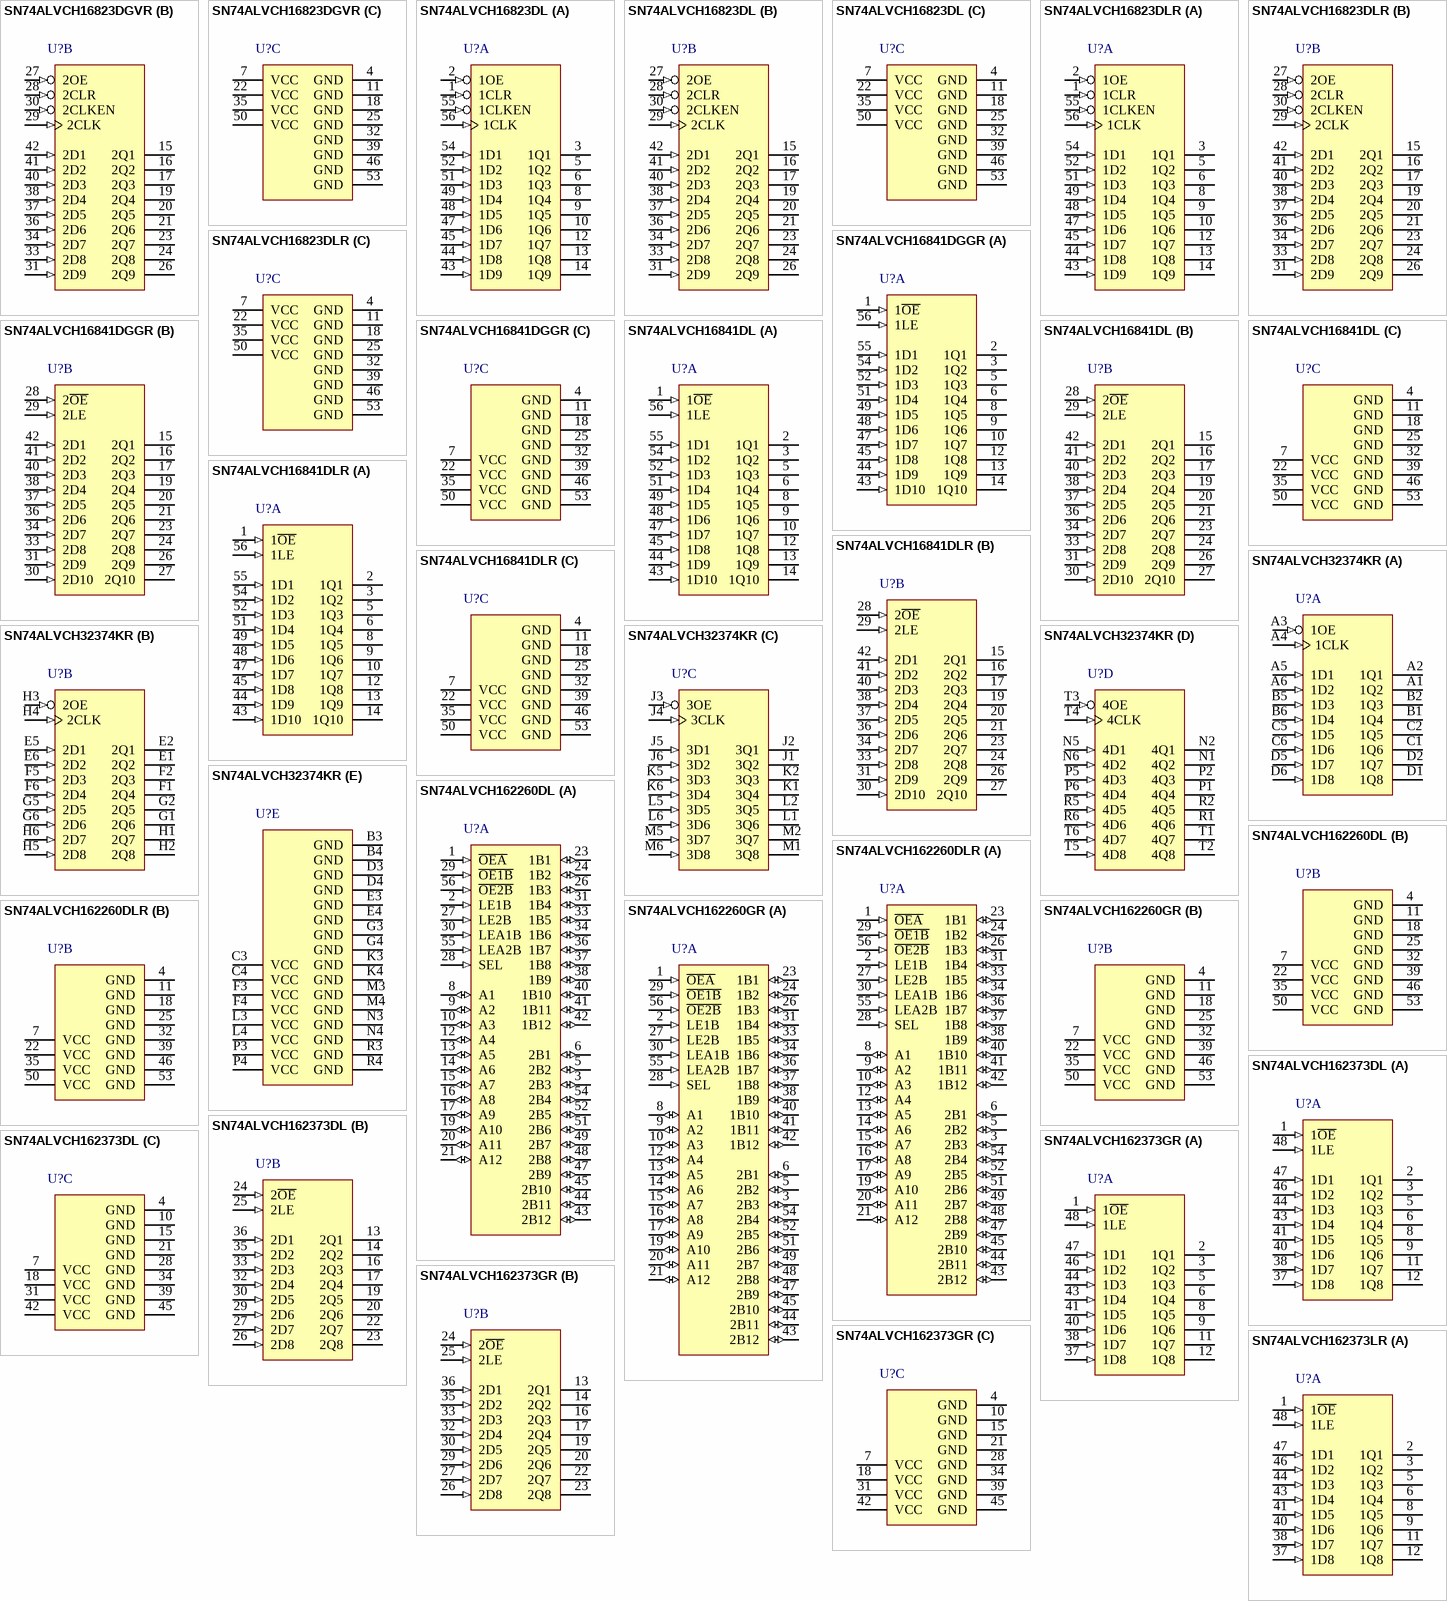
[diagram p79: symbols SN74ALVCH16823DGVR to SN74ALVCH162373LR]

## SN74ALVCH16823DGVR
designator U?
18-Bit Bus-Interface Flip-Flop With 3-State Outputs, DGV0056A, LARGE T&R; Generic Part Number: SN74ALVCH16823; Manufacturer: Texas Instruments; PartNumber: SN74ALVCH16823DGVR; VCC(Min)(V): 1.65; VCC(Max)(V): 3.6; Output Type: LVTTL,CMOS; ICC @ Nom Voltage(Max)(mA): 0.04; Bits(#): 18; F @ Nom Voltage(Max)(Mhz): 150; Rating: Catalog; Technology Family: ALVC; Voltage(Nom)(V): 1.8,2.5,2.7,3.3; Schmitt Trigger: No; Output Drive (IOL/IOH)(Max)(mA): 24/-24; Output Logic: Non-inverted; 3-State Output: Yes; tpd @ Nom Voltage(Max)(ns): 5.8,5.2,4.6; DatasheetVersion: SCES038F; PackageReference: DGV0056A; Supplier 1: Digi-Key; Supplier Part Number 1: 296-12872-2-ND; Supplier 2: Digi-Key; Supplier Part Number 2: 296-12872-1-ND; Supplier 3: Digi-Key; Supplier Part Number 3: 296-12872-6-ND; Supplier 4: Mouser; Supplier Part Number 4: 595-74ALVCH16823DGVR; Input Type: LVTTL,CMOS; Operating Temperature Range(C): -40 to 85; Code_JEDEC: MO-194; ComponentLink1Description: Manufacturer URL; ComponentLink1URL: http://www.ti.com/; ComponentLink2Description: Datasheet; ComponentLink2URL: http://www.ti.com/lit/ds/symlink/sn74alvch16823.pdf; ComponentLink3Description: Package Specification; ComponentLink3URL: http://www.ti.com/lit/ml/mpds006c/mpds006c.pdf
footprint DGV0056A_N (SOP, 56-Leads, Body 4.5x11.4mm, Pitch 0.4mm, IPC Medium Density)
footprint DGV0056A_M (SOP, 56-Leads, Body 4.5x11.4mm, Pitch 0.4mm, IPC Low Density)
footprint DGV0056A_L (SOP, 56-Leads, Body 4.5x11.4mm, Pitch 0.4mm, IPC High Density)
part A pins: 1 1CLR (in) "Asynchronous Clear Inputs (Active LOW)", 2 1OE (in) "Output Enable Inputs (Active LOW)", 3 1Q1 (hiz) "Three-State Outputs", 5 1Q2 (hiz) "Three-State Outputs", 6 1Q3 (hiz) "Three-State Outputs", 8 1Q4 (hiz) "Three-State Outputs", 9 1Q5 (hiz) "Three-State Outputs", 10 1Q6 (hiz) "Three-State Outputs", 12 1Q7 (hiz) "Three-State Outputs", 13 1Q8 (hiz) "Three-State Outputs", 14 1Q9 (hiz) "Three-State Outputs", 43 1D9 (in) "Data Inputs", 44 1D8 (in) "Data Inputs", 45 1D7 (in) "Data Inputs", 47 1D6 (in) "Data Inputs", 48 1D5 (in) "Data Inputs", 49 1D4 (in) "Data Inputs", 51 1D3 (in) "Data Inputs", 52 1D2 (in) "Data Inputs", 54 1D1 (in) "Data Inputs", 55 1CLKEN (in) "Clock Enable Inputs (Active LOW)", 56 1CLK (in) "Clock Inputs"
part B pins: 15 2Q1 (hiz) "Three-State Outputs", 16 2Q2 (hiz) "Three-State Outputs", 17 2Q3 (hiz) "Three-State Outputs", 19 2Q4 (hiz) "Three-State Outputs", 20 2Q5 (hiz) "Three-State Outputs", 21 2Q6 (hiz) "Three-State Outputs", 23 2Q7 (hiz) "Three-State Outputs", 24 2Q8 (hiz) "Three-State Outputs", 26 2Q9 (hiz) "Three-State Outputs", 27 2OE (in) "Output Enable Inputs (Active LOW)", 28 2CLR (in) "Asynchronous Clear Inputs (Active LOW)", 29 2CLK (in) "Clock Inputs", 30 2CLKEN (in) "Clock Enable Inputs (Active LOW)", 31 2D9 (in) "Data Inputs", 33 2D8 (in) "Data Inputs", 34 2D7 (in) "Data Inputs", 36 2D6 (in) "Data Inputs", 37 2D5 (in) "Data Inputs", 38 2D4 (in) "Data Inputs", 40 2D3 (in) "Data Inputs", 41 2D2 (in) "Data Inputs", 42 2D1 (in) "Data Inputs"
part C pins: 4 GND (power), 7 VCC (power), 11 GND (power), 18 GND (power), 22 VCC (power), 25 GND (power), 32 GND (power), 35 VCC (power), 39 GND (power), 46 GND (power), 50 VCC (power), 53 GND (power)

## SN74ALVCH16823DL
designator U?
18-Bit Bus-Interface Flip-Flop With 3-State Outputs, DL0056A, TUBE; Generic Part Number: SN74ALVCH16823; Manufacturer: Texas Instruments; PartNumber: SN74ALVCH16823DL; VCC(Min)(V): 1.65; VCC(Max)(V): 3.6; Output Type: LVTTL,CMOS; ICC @ Nom Voltage(Max)(mA): 0.04; Bits(#): 18; F @ Nom Voltage(Max)(Mhz): 150; Rating: Catalog; Technology Family: ALVC; Voltage(Nom)(V): 1.8,2.5,2.7,3.3; Schmitt Trigger: No; Output Drive (IOL/IOH)(Max)(mA): 24/-24; Output Logic: Non-inverted; 3-State Output: Yes; tpd @ Nom Voltage(Max)(ns): 5.8,5.2,4.6; DatasheetVersion: SCES038F; PackageReference: DL0056A; Supplier 1: Digi-Key; Supplier Part Number 1: 296-5251-5-ND; Supplier 2: Mouser; Supplier Part Number 2: 595-SN74ALVCH16823DL; Input Type: LVTTL,CMOS; Operating Temperature Range(C): -40 to 85; Code_JEDEC: MO-118; ComponentLink1Description: Manufacturer URL; ComponentLink1URL: http://www.ti.com/; ComponentLink2Description: Datasheet; ComponentLink2URL: http://www.ti.com/lit/ds/symlink/sn74alvch16823.pdf; ComponentLink3Description: Package Specification; ComponentLink3URL: http://www.ti.com/lit/ml/mpds491/mpds491.pdf
footprint DL0056A_N (SOP, 56-Leads, Body 7.6x18.5mm, Pitch 0.635mm, IPC Medium Density)
footprint DL0056A_M (SOP, 56-Leads, Body 7.6x18.5mm, Pitch 0.635mm, IPC Low Density)
footprint DL0056A_L (SOP, 56-Leads, Body 7.6x18.5mm, Pitch 0.635mm, IPC High Density)
part A pins: 1 1CLR (in) "Asynchronous Clear Inputs (Active LOW)", 2 1OE (in) "Output Enable Inputs (Active LOW)", 3 1Q1 (hiz) "Three-State Outputs", 5 1Q2 (hiz) "Three-State Outputs", 6 1Q3 (hiz) "Three-State Outputs", 8 1Q4 (hiz) "Three-State Outputs", 9 1Q5 (hiz) "Three-State Outputs", 10 1Q6 (hiz) "Three-State Outputs", 12 1Q7 (hiz) "Three-State Outputs", 13 1Q8 (hiz) "Three-State Outputs", 14 1Q9 (hiz) "Three-State Outputs", 43 1D9 (in) "Data Inputs", 44 1D8 (in) "Data Inputs", 45 1D7 (in) "Data Inputs", 47 1D6 (in) "Data Inputs", 48 1D5 (in) "Data Inputs", 49 1D4 (in) "Data Inputs", 51 1D3 (in) "Data Inputs", 52 1D2 (in) "Data Inputs", 54 1D1 (in) "Data Inputs", 55 1CLKEN (in) "Clock Enable Inputs (Active LOW)", 56 1CLK (in) "Clock Inputs"
part B pins: 15 2Q1 (hiz) "Three-State Outputs", 16 2Q2 (hiz) "Three-State Outputs", 17 2Q3 (hiz) "Three-State Outputs", 19 2Q4 (hiz) "Three-State Outputs", 20 2Q5 (hiz) "Three-State Outputs", 21 2Q6 (hiz) "Three-State Outputs", 23 2Q7 (hiz) "Three-State Outputs", 24 2Q8 (hiz) "Three-State Outputs", 26 2Q9 (hiz) "Three-State Outputs", 27 2OE (in) "Output Enable Inputs (Active LOW)", 28 2CLR (in) "Asynchronous Clear Inputs (Active LOW)", 29 2CLK (in) "Clock Inputs", 30 2CLKEN (in) "Clock Enable Inputs (Active LOW)", 31 2D9 (in) "Data Inputs", 33 2D8 (in) "Data Inputs", 34 2D7 (in) "Data Inputs", 36 2D6 (in) "Data Inputs", 37 2D5 (in) "Data Inputs", 38 2D4 (in) "Data Inputs", 40 2D3 (in) "Data Inputs", 41 2D2 (in) "Data Inputs", 42 2D1 (in) "Data Inputs"
part C pins: 4 GND (power), 7 VCC (power), 11 GND (power), 18 GND (power), 22 VCC (power), 25 GND (power), 32 GND (power), 35 VCC (power), 39 GND (power), 46 GND (power), 50 VCC (power), 53 GND (power)

## SN74ALVCH16823DLR
designator U?
18-Bit Bus-Interface Flip-Flop With 3-State Outputs, DL0056A, LARGE T&R; Generic Part Number: SN74ALVCH16823; Manufacturer: Texas Instruments; PartNumber: SN74ALVCH16823DLR; VCC(Min)(V): 1.65; VCC(Max)(V): 3.6; Output Type: LVTTL,CMOS; ICC @ Nom Voltage(Max)(mA): 0.04; Bits(#): 18; F @ Nom Voltage(Max)(Mhz): 150; Rating: Catalog; Technology Family: ALVC; Voltage(Nom)(V): 1.8,2.5,2.7,3.3; Schmitt Trigger: No; Output Drive (IOL/IOH)(Max)(mA): 24/-24; Output Logic: Non-inverted; 3-State Output: Yes; tpd @ Nom Voltage(Max)(ns): 5.8,5.2,4.6; DatasheetVersion: SCES038F; PackageReference: DL0056A; Supplier 1: Digi-Key; Supplier Part Number 1: 296-14786-2-ND; Supplier 2: Digi-Key; Supplier Part Number 2: 296-14786-1-ND; Supplier 3: Digi-Key; Supplier Part Number 3: 296-14786-6-ND; Supplier 4: Mouser; Supplier Part Number 4: 595-74ALVCH16823DLR; Input Type: LVTTL,CMOS; Operating Temperature Range(C): -40 to 85; Code_JEDEC: MO-118; ComponentLink1Description: Manufacturer URL; ComponentLink1URL: http://www.ti.com/; ComponentLink2Description: Datasheet; ComponentLink2URL: http://www.ti.com/lit/ds/symlink/sn74alvch16823.pdf; ComponentLink3Description: Package Specification; ComponentLink3URL: http://www.ti.com/lit/ml/mpds491/mpds491.pdf
footprint DL0056A_N (SOP, 56-Leads, Body 7.6x18.5mm, Pitch 0.635mm, IPC Medium Density)
footprint DL0056A_M (SOP, 56-Leads, Body 7.6x18.5mm, Pitch 0.635mm, IPC Low Density)
footprint DL0056A_L (SOP, 56-Leads, Body 7.6x18.5mm, Pitch 0.635mm, IPC High Density)
part A pins: 1 1CLR (in) "Asynchronous Clear Inputs (Active LOW)", 2 1OE (in) "Output Enable Inputs (Active LOW)", 3 1Q1 (hiz) "Three-State Outputs", 5 1Q2 (hiz) "Three-State Outputs", 6 1Q3 (hiz) "Three-State Outputs", 8 1Q4 (hiz) "Three-State Outputs", 9 1Q5 (hiz) "Three-State Outputs", 10 1Q6 (hiz) "Three-State Outputs", 12 1Q7 (hiz) "Three-State Outputs", 13 1Q8 (hiz) "Three-State Outputs", 14 1Q9 (hiz) "Three-State Outputs", 43 1D9 (in) "Data Inputs", 44 1D8 (in) "Data Inputs", 45 1D7 (in) "Data Inputs", 47 1D6 (in) "Data Inputs", 48 1D5 (in) "Data Inputs", 49 1D4 (in) "Data Inputs", 51 1D3 (in) "Data Inputs", 52 1D2 (in) "Data Inputs", 54 1D1 (in) "Data Inputs", 55 1CLKEN (in) "Clock Enable Inputs (Active LOW)", 56 1CLK (in) "Clock Inputs"
part B pins: 15 2Q1 (hiz) "Three-State Outputs", 16 2Q2 (hiz) "Three-State Outputs", 17 2Q3 (hiz) "Three-State Outputs", 19 2Q4 (hiz) "Three-State Outputs", 20 2Q5 (hiz) "Three-State Outputs", 21 2Q6 (hiz) "Three-State Outputs", 23 2Q7 (hiz) "Three-State Outputs", 24 2Q8 (hiz) "Three-State Outputs", 26 2Q9 (hiz) "Three-State Outputs", 27 2OE (in) "Output Enable Inputs (Active LOW)", 28 2CLR (in) "Asynchronous Clear Inputs (Active LOW)", 29 2CLK (in) "Clock Inputs", 30 2CLKEN (in) "Clock Enable Inputs (Active LOW)", 31 2D9 (in) "Data Inputs", 33 2D8 (in) "Data Inputs", 34 2D7 (in) "Data Inputs", 36 2D6 (in) "Data Inputs", 37 2D5 (in) "Data Inputs", 38 2D4 (in) "Data Inputs", 40 2D3 (in) "Data Inputs", 41 2D2 (in) "Data Inputs", 42 2D1 (in) "Data Inputs"
part C pins: 4 GND (power), 7 VCC (power), 11 GND (power), 18 GND (power), 22 VCC (power), 25 GND (power), 32 GND (power), 35 VCC (power), 39 GND (power), 46 GND (power), 50 VCC (power), 53 GND (power)

## SN74ALVCH16841DGGR
designator U?
20-Bit Bus-Interface D-Type Latch With 3-State Outputs, DGG0056A, LARGE T&R; Generic Part Number: SN74ALVCH16841; Manufacturer: Texas Instruments; PartNumber: SN74ALVCH16841DGGR; VCC(Min)(V): 1.65; VCC(Max)(V): 3.6; Output Type: LVTTL; Logic: True; Static Current: 0.04; Bits(#): 20; F @ Nom Voltage(Max)(Mhz): 150; Rating: Catalog; Technology Family: ALVC; Voltage(Nom)(V): 1.8,2.5,2.7,3.3; Schmitt Trigger: No; Output Drive (IOL/IOH)(Max)(mA): 24/-24; Output Logic: Non-inverted; 3-State Output: Yes; tpd @ Nom Voltage(Max)(ns): 5,4.7,3.9; DatasheetVersion: SCES043E; PackageReference: DGG0056A; Supplier 1: Digi-Key; Supplier Part Number 1: 296-6261-2-ND; Supplier 2: Digi-Key; Supplier Part Number 2: 296-6261-1-ND; Supplier 3: Digi-Key; Supplier Part Number 3: 296-6261-6-ND; Supplier 4: Newark; Supplier Part Number 4: 76C2387; Supplier 5: Mouser; Supplier Part Number 5: 595-74ALVCH16841DGGR; ICC @ Nom Voltage(Max)(mA): 0.04; Input Type: LVTTL; Operating Temperature Range(C): -40 to 85; Code_JEDEC: MO-153; ComponentLink1Description: Manufacturer URL; ComponentLink1URL: http://www.ti.com/; ComponentLink2Description: Datasheet; ComponentLink2URL: http://www.ti.com/lit/ds/symlink/sn74alvch16841.pdf; ComponentLink3Description: Package Specification; ComponentLink3URL: http://www.ti.com/lit/ml/mtss003d/mtss003d.pdf
footprint DGG0056A_N (TSSOP, 56-Leads, Body 14.1x6.2mm, Pitch 0.5mm, IPC Medium Density)
footprint DGG0056A_M (TSSOP, 56-Leads, Body 14.1x6.2mm, Pitch 0.5mm, IPC Low Density)
footprint DGG0056A_L (TSSOP, 56-Leads, Body 14.1x6.2mm, Pitch 0.5mm, IPC High Density)
part A pins: 1 1~{OE} (in) "Output Enable Input (Active LOW)", 2 1Q1 (hiz) "Three-State Outputs", 3 1Q2 (hiz) "Three-State Outputs", 5 1Q3 (hiz) "Three-State Outputs", 6 1Q4 (hiz) "Three-State Outputs", 8 1Q5 (hiz) "Three-State Outputs", 9 1Q6 (hiz) "Three-State Outputs", 10 1Q7 (hiz) "Three-State Outputs", 12 1Q8 (hiz) "Three-State Outputs", 13 1Q9 (hiz) "Three-State Outputs", 14 1Q10 (hiz) "Three-State Outputs", 43 1D10 (in) "Data Inputs", 44 1D9 (in) "Data Inputs", 45 1D8 (in) "Data Inputs", 47 1D7 (in) "Data Inputs", 48 1D6 (in) "Data Inputs", 49 1D5 (in) "Data Inputs", 51 1D4 (in) "Data Inputs", 52 1D3 (in) "Data Inputs", 54 1D2 (in) "Data Inputs", 55 1D1 (in) "Data Inputs", 56 1LE (in) "Latch Enable Input (Active HIGH)"
part B pins: 15 2Q1 (hiz) "Three-State Outputs", 16 2Q2 (hiz) "Three-State Outputs", 17 2Q3 (hiz) "Three-State Outputs", 19 2Q4 (hiz) "Three-State Outputs", 20 2Q5 (hiz) "Three-State Outputs", 21 2Q6 (hiz) "Three-State Outputs", 23 2Q7 (hiz) "Three-State Outputs", 24 2Q8 (hiz) "Three-State Outputs", 26 2Q9 (hiz) "Three-State Outputs", 27 2Q10 (hiz) "Three-State Outputs", 28 2~{OE} (in) "Output Enable Input (Active LOW)", 29 2LE (in) "Latch Enable Input (Active HIGH)", 30 2D10 (in) "Data Inputs", 31 2D9 (in) "Data Inputs", 33 2D8 (in) "Data Inputs", 34 2D7 (in) "Data Inputs", 36 2D6 (in) "Data Inputs", 37 2D5 (in) "Data Inputs", 38 2D4 (in) "Data Inputs", 40 2D3 (in) "Data Inputs", 41 2D2 (in) "Data Inputs", 42 2D1 (in) "Data Inputs"
part C pins: 4 GND (power), 7 VCC (power), 11 GND (power), 18 GND (power), 22 VCC (power), 25 GND (power), 32 GND (power), 35 VCC (power), 39 GND (power), 46 GND (power), 50 VCC (power), 53 GND (power)

## SN74ALVCH16841DL
designator U?
20-Bit Bus-Interface D-Type Latch With 3-State Outputs, DL0056A, TUBE; Generic Part Number: SN74ALVCH16841; Manufacturer: Texas Instruments; PartNumber: SN74ALVCH16841DL; VCC(Min)(V): 1.65; VCC(Max)(V): 3.6; Output Type: LVTTL; Logic: True; Static Current: 0.04; Bits(#): 20; F @ Nom Voltage(Max)(Mhz): 150; Rating: Catalog; Technology Family: ALVC; Voltage(Nom)(V): 1.8,2.5,2.7,3.3; Schmitt Trigger: No; Output Drive (IOL/IOH)(Max)(mA): 24/-24; Output Logic: Non-inverted; 3-State Output: Yes; tpd @ Nom Voltage(Max)(ns): 5,4.7,3.9; DatasheetVersion: SCES043E; PackageReference: DL0056A; Supplier 1: Digi-Key; Supplier Part Number 1: 296-6266-5-ND; Supplier 2: Farnell; Supplier Part Number 2: 1750115; Supplier 3: Mouser; Supplier Part Number 3: 595-SN74ALVCH16841DL; ICC @ Nom Voltage(Max)(mA): 0.04; Input Type: LVTTL; Operating Temperature Range(C): -40 to 85; Code_JEDEC: MO-118; ComponentLink1Description: Manufacturer URL; ComponentLink1URL: http://www.ti.com/; ComponentLink2Description: Datasheet; ComponentLink2URL: http://www.ti.com/lit/ds/symlink/sn74alvch16841.pdf; ComponentLink3Description: Package Specification; ComponentLink3URL: http://www.ti.com/lit/ml/mpds491/mpds491.pdf
footprint DL0056A_N (SOP, 56-Leads, Body 7.6x18.5mm, Pitch 0.635mm, IPC Medium Density)
footprint DL0056A_M (SOP, 56-Leads, Body 7.6x18.5mm, Pitch 0.635mm, IPC Low Density)
footprint DL0056A_L (SOP, 56-Leads, Body 7.6x18.5mm, Pitch 0.635mm, IPC High Density)
part A pins: 1 1~{OE} (in) "Output Enable Input (Active LOW)", 2 1Q1 (hiz) "Three-State Outputs", 3 1Q2 (hiz) "Three-State Outputs", 5 1Q3 (hiz) "Three-State Outputs", 6 1Q4 (hiz) "Three-State Outputs", 8 1Q5 (hiz) "Three-State Outputs", 9 1Q6 (hiz) "Three-State Outputs", 10 1Q7 (hiz) "Three-State Outputs", 12 1Q8 (hiz) "Three-State Outputs", 13 1Q9 (hiz) "Three-State Outputs", 14 1Q10 (hiz) "Three-State Outputs", 43 1D10 (in) "Data Inputs", 44 1D9 (in) "Data Inputs", 45 1D8 (in) "Data Inputs", 47 1D7 (in) "Data Inputs", 48 1D6 (in) "Data Inputs", 49 1D5 (in) "Data Inputs", 51 1D4 (in) "Data Inputs", 52 1D3 (in) "Data Inputs", 54 1D2 (in) "Data Inputs", 55 1D1 (in) "Data Inputs", 56 1LE (in) "Latch Enable Input (Active HIGH)"
part B pins: 15 2Q1 (hiz) "Three-State Outputs", 16 2Q2 (hiz) "Three-State Outputs", 17 2Q3 (hiz) "Three-State Outputs", 19 2Q4 (hiz) "Three-State Outputs", 20 2Q5 (hiz) "Three-State Outputs", 21 2Q6 (hiz) "Three-State Outputs", 23 2Q7 (hiz) "Three-State Outputs", 24 2Q8 (hiz) "Three-State Outputs", 26 2Q9 (hiz) "Three-State Outputs", 27 2Q10 (hiz) "Three-State Outputs", 28 2~{OE} (in) "Output Enable Input (Active LOW)", 29 2LE (in) "Latch Enable Input (Active HIGH)", 30 2D10 (in) "Data Inputs", 31 2D9 (in) "Data Inputs", 33 2D8 (in) "Data Inputs", 34 2D7 (in) "Data Inputs", 36 2D6 (in) "Data Inputs", 37 2D5 (in) "Data Inputs", 38 2D4 (in) "Data Inputs", 40 2D3 (in) "Data Inputs", 41 2D2 (in) "Data Inputs", 42 2D1 (in) "Data Inputs"
part C pins: 4 GND (power), 7 VCC (power), 11 GND (power), 18 GND (power), 22 VCC (power), 25 GND (power), 32 GND (power), 35 VCC (power), 39 GND (power), 46 GND (power), 50 VCC (power), 53 GND (power)